# EAGLE library part BD6222HFP-TR (library BD6222HFP-TR)
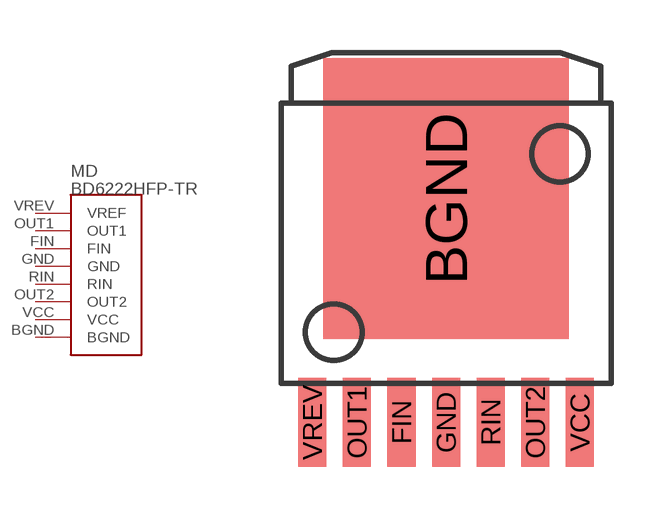
[diagram p0: symbol with the pads of BD6222HFP-TR; footprint BD6222HFP-TR]

Designator prefix MD

## BD6222HFP-TR  [BD6222HFP-TR]
BGND  BGND
FIN  FIN
GND  GND
OUT1  OUT1
OUT2  OUT2
RIN  RIN
VCC  VCC
VREV  VREF

## Footprint BD6222HFP-TR (pad centres in mm)
smd 7 x 8: BGND 0,6.378
smd 0.8 x 2.54: FIN -1.27,0; GND 0,0; OUT1 -2.54,0; OUT2 2.54,0; RIN 1.27,0; VCC 3.81,0; VREV -3.81,0